# EAGLE library part UJ2-MIBH-4-MSMT (library UJ2-MIBH-4-MSMT)
Micro B, USB 2.0, 1.8 A, Right Angle, Mid-Mount SMT, USB Receptacle
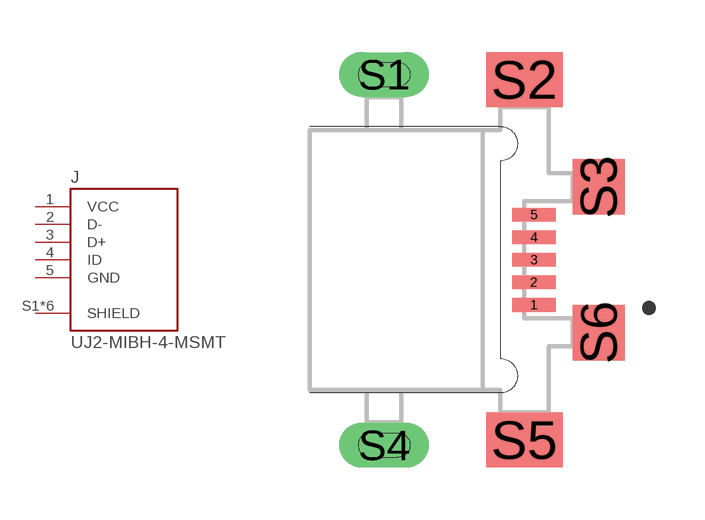
[diagram p0: symbol with the pads of CUI_UJ2-MIBH-4-MSMT; footprint CUI_UJ2-MIBH-4-MSMT]

Designator prefix J

## UJ2-MIBH-4-MSMT (CUI_purchase_URL: https://www.cuidevices.com/product/interconnect/connectors/usb-connectors/uj2-mibh-4-msmt?utm_source=snapeda.com&utm_medium=referral&utm_campaign=snapedaBOM; Description: Micro B, USB 2.0, 1.8 A, Right Angle, Mid Mount _SMT_, USB Receptacle; Digi-Key_Part_Number: 102-4008-1-ND; Digi-Key_Purchase_URL: https://www.digikey.com/product-detail/en/cui-devices/UJ2-MIBH-4-MSMT-TR/102-4008-1-ND/6187930?utm_source=snapeda&utm_medium=aggregator&utm_campaign=symbol; MF: CUI Devices; MP: UJ2-MIBH-4-MSMT-TR; Package: None)  [CUI_UJ2-MIBH-4-MSMT]
1  VCC  pwr
2  D-
3  D+
4  ID  pas
5  GND  pwr
S1  SHIELD  pas
S2  SHIELD  pas
S3  SHIELD  pas
S4  SHIELD  pas
S5  SHIELD  pas
S6  SHIELD  pas

## Footprint CUI_UJ2-MIBH-4-MSMT (pad centres in mm)
smd 1.25 x 0.4: 1 4.325,-1.3; 2 4.325,-0.65; 3 4.325,0; 4 4.325,0.65; 5 4.325,1.3
drill 0.7 pad 1.3 long: S1 0,5.35; S4 0,-5.35
smd 2.2 x 1.6: S2 4.05,5.2; S5 4.05,-5.2
smd 1.5 x 1.6: S3 6.2,2.1; S6 6.2,-2.1